# EAGLE library part TM1637 (library Elecrow_IC)
LED Driver
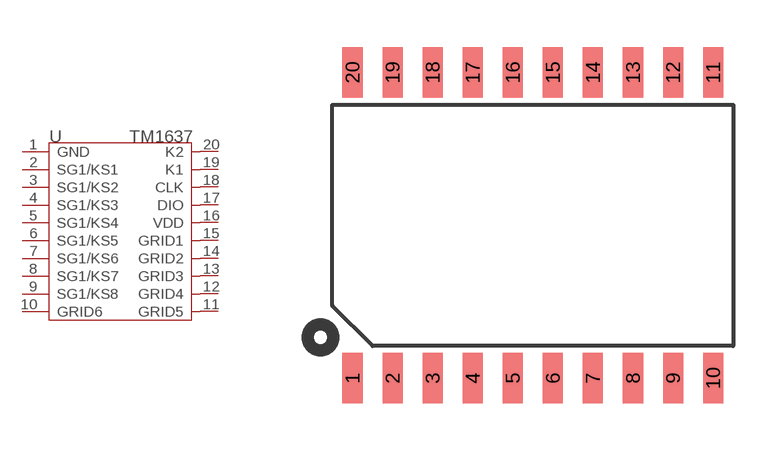
[diagram p5: symbol with the pads of SOP20-10.45; footprint SOP20-10.45]

Designator prefix U

## TM1637-SOP20  [SOP20-10.45]
1  GND
2  SG1/KS1
3  SG1/KS2
4  SG1/KS3
5  SG1/KS4
6  SG1/KS5
7  SG1/KS6
8  SG1/KS7
9  SG1/KS8
10  GRID6
11  GRID5
12  GRID4
13  GRID3
14  GRID2
15  GRID1
16  VDD
17  DIO
18  CLK
19  K1
20  K2

## Footprint SOP20-10.45 (pad centres in mm)
smd 0.635 x 1.6: 1 -5.715,-4.85; 2 -4.445,-4.85; 3 -3.175,-4.85; 4 -1.905,-4.85; 5 -0.635,-4.85; 6 0.635,-4.85; 7 1.905,-4.85; 8 3.175,-4.85; 9 4.445,-4.85; 10 5.715,-4.85; 11 5.715,4.85; 12 4.445,4.85; 13 3.175,4.85; 14 1.905,4.85; 15 0.635,4.85; 16 -0.635,4.85; 17 -1.905,4.85; 18 -3.175,4.85; 19 -4.445,4.85; 20 -5.715,4.85